# Altium schematic symbol library RAM.SchLib: 3 symbols
Pins are listed as number, name and electrical type; pins without a type are passive.

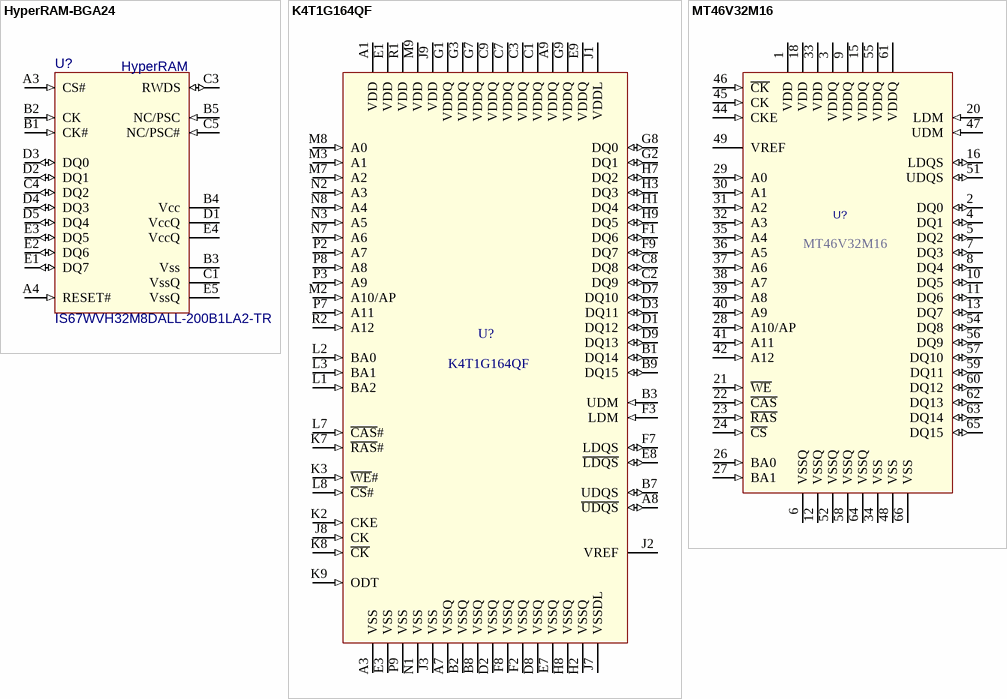
[diagram p0: symbols HyperRAM-BGA24 to MT46V32M16]

## HyperRAM-BGA24
designator U?, comment HyperRAM  value IS67WVH32M8DALL-200B1LA2-TR
footprint BGA-24 (CSP) (BGA, 24-Leads, Body 6.00x8.00mmx1.20mm, Pitch 1.00mm)
pins: A3 CS# (in), A4 RESET# (in), B1 CK# (in), B2 CK (in), B3 Vss (power), B4 Vcc (power), B5 NC/PSC (in), C1 VssQ (power), C3 RWDS (io), C4 DQ2 (io), C5 NC/PSC# (in), D1 VccQ (power), D2 DQ1 (io), D3 DQ0 (io), D4 DQ3 (io), D5 DQ4 (io), E1 DQ7 (io), E2 DQ6 (io), E3 DQ5 (io), E4 VccQ (power), E5 VssQ (power)

## K4T1G164QF
designator U?
1GBit DDR2 SDRAM FBGA-84; value: K4T1G164QF
pins: A1 VDD (power), A3 VSS (power), A7 VSSQ (power), A8 ~{UDQS} (io), A9 VDDQ (power), B1 DQ14 (io), B2 VSSQ (power), B3 UDM (in), B7 UDQS (io), B8 VSSQ (power), B9 DQ15 (io), C1 VDDQ (power), C2 DQ9 (io), C3 VDDQ (power), C7 VDDQ (power), C8 DQ8 (io), C9 VDDQ (power), D1 DQ12 (io), D2 VSSQ (power), D3 DQ11 (io), D7 DQ10 (io), D8 VSSQ (power), D9 DQ13 (io), E1 VDD (power), E3 VSS (power), E7 VSSQ (power), E8 ~{LDQS} (io), E9 VDDQ (power), F1 DQ6 (io), F2 VSSQ (power), F3 LDM (in), F7 LDQS (io), F8 VSSQ (power), F9 DQ7 (io), G1 VDDQ (power), G2 DQ1 (io), G3 VDDQ (power), G7 VDDQ (power), G8 DQ0 (io), G9 VDDQ (power), H1 DQ4 (io), H2 VSSQ (power), H3 DQ3 (io), H7 DQ2 (io), H8 VSSQ (power), H9 DQ5 (io), J1 VDDL (power), J2 VREF, J3 VSS (power), J7 VSSDL (power), J8 CK (in), J9 VDD (power), K2 CKE (in), K3 ~{WE}# (in), K7 ~{RAS}# (in), K8 ~{CK} (in), K9 ODT (in), L1 BA2 (in), L2 BA0 (in), L3 BA1 (in), L7 ~{CAS}# (in), L8 ~{CS}# (in), M2 A10/AP (in), M3 A1 (in), M7 A2 (in), M8 A0 (in), M9 VDD (power), N1 VSS (power), N2 A3 (in), N3 A5 (in), N7 A6 (in), N8 A4 (in), P2 A7 (in), P3 A9 (in), P7 A11 (in), P8 A8 (in), P9 VSS (power), R1 VDD (power), R2 A12 (in)

## MT46V32M16
designator U?
512MBit DDR SDRAM TSOP-66; Value: MT46V32M16
footprint TSSOP-66
pins: 1 VDD (power), 2 DQ0 (io), 3 VDDQ (power), 4 DQ1 (io), 5 DQ2 (io), 6 VSSQ (power), 7 DQ3 (io), 8 DQ4 (io), 9 VDDQ (power), 10 DQ5 (io), 11 DQ6 (io), 12 VSSQ (power), 13 DQ7 (io), 14 hidden, 15 VDDQ (power), 16 LDQS (io), 17 hidden, 18 VDD (power), 19 hidden, 20 LDM (in), 21 ~{WE} (in), 22 ~{CAS} (in), 23 ~{RAS} (in), 24 ~{CS} (in), 25 hidden, 26 BA0 (in), 27 BA1 (in), 28 A10/AP (in), 29 A0 (in), 30 A1 (in), 31 A2 (in), 32 A3 (in), 33 VDD (power), 34 VSS (power), 35 A4 (in), 36 A5 (in), 37 A6 (in), 38 A7 (in), 39 A8 (in), 40 A9 (in), 41 A11 (in), 42 A12 (in), 43 hidden, 44 CKE (in), 45 CK (in), 46 ~{CK} (in), 47 UDM (in), 48 VSS (power), 49 VREF, 50 hidden, 51 UDQS (io), 52 VSSQ (power), 53 hidden, 54 DQ8 (io), 55 VDDQ (power), 56 DQ9 (io), 57 DQ10 (io), 58 VSSQ (power), 59 DQ11 (io), 60 DQ12 (io), 61 VDDQ (power), 62 DQ13 (io), 63 DQ14 (io), 64 VSSQ (power), 65 DQ15 (io), 66 VSS (power)